# EAGLE library part B (library J-USB)
B [MOLEX,0670688000] USB B THROUGH HOLE
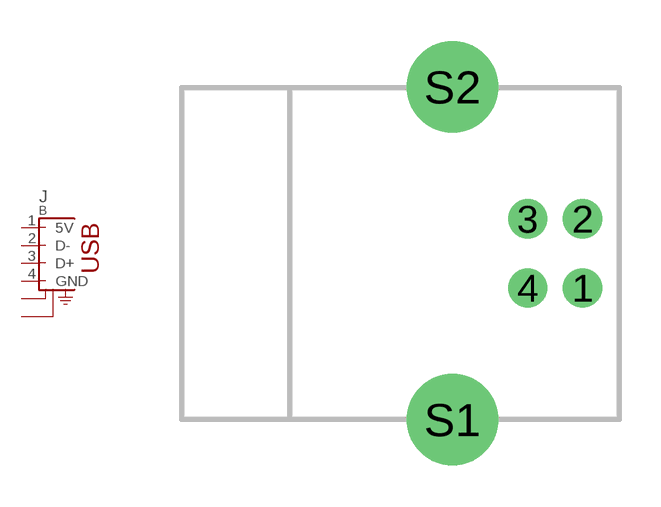
[diagram p1: symbol with the pads of USB-B-PTH; footprint USB-B-PTH]

Designator prefix J

## B  [USB-B-PTH]
1  5V
2  D-
3  D+
4  GND
S1  CHASSIS1
S2  CHASSIS2

## Footprint USB-B-PTH (pad centres in mm)
B [MOLEX,0670688000] USB B THROUGH HOLE
drill 0.914: 1 1.981,-1.25; 2 1.981,1.25; 3 0,1.25; 4 0,-1.25
drill 2.286: S1 -2.718,-6.02; S2 -2.718,6.02